# EAGLE library part MC100EP196FAG (library on-semiconductor-01)
3.3V ECL Programmable Delay Chip
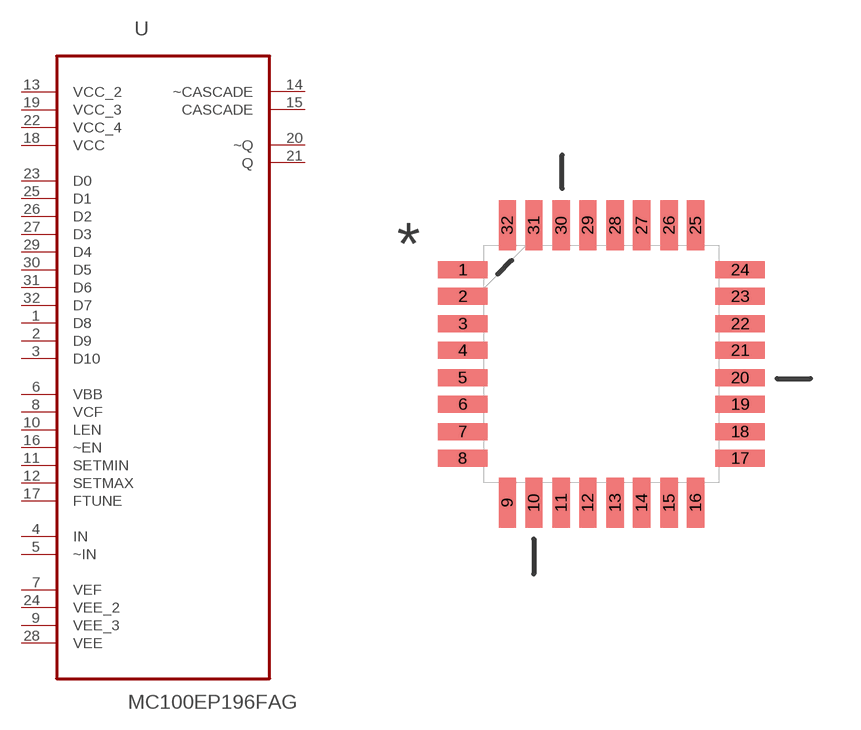
[diagram p110: symbol with the pads of QFP80P900X900X160-32N; footprint QFP80P900X900X160-32N]

Designator prefix U

## MC100EP196FAG (MPN: MC100EP196FAG; OC_FARNELL: 1703312; OC_NEWARK: 88H4711; PACKAGE: LQFP-32; SUPPLIER: ON SEMICONDUCTOR)  [QFP80P900X900X160-32N]
1  D8  in
2  D9  in
3  D10  in
4  IN  in
5  ~IN  in
6  VBB  out
7  VEF  in
8  VCF  in
9  VEE_3  pas
10  LEN  in
11  SETMIN  in
12  SETMAX  in
13  VCC_2  pwr
14  ~CASCADE  out
15  CASCADE  out
16  ~EN  out
17  FTUNE  in
18  VCC  pwr
19  VCC_3  pwr
20  ~Q  out
21  Q  out
22  VCC_4  pwr
23  D0  in
24  VEE_2  out
25  D1  in
26  D2  in
27  D3  in
28  VEE  pas
29  D4  in
30  D5  in
31  D6  in
32  D7  in

## Footprint QFP80P900X900X160-32N (pad centres in mm)
smd 1.473 x 0.508: 1 -4.115,2.794; 2 -4.115,2.007; 3 -4.115,1.194; 4 -4.115,0.406; 5 -4.115,-0.406; 6 -4.115,-1.194; 7 -4.115,-2.007; 8 -4.115,-2.794; 17 4.115,-2.794; 18 4.115,-2.007; 19 4.115,-1.194; 20 4.115,-0.406; 21 4.115,0.406; 22 4.115,1.194; 23 4.115,2.007; 24 4.115,2.794
smd 0.508 x 1.473: 9 -2.794,-4.115; 10 -2.007,-4.115; 11 -1.194,-4.115; 12 -0.406,-4.115; 13 0.406,-4.115; 14 1.194,-4.115; 15 2.007,-4.115; 16 2.794,-4.115; 25 2.794,4.115; 26 2.007,4.115; 27 1.194,4.115; 28 0.406,4.115; 29 -0.406,4.115; 30 -1.194,4.115; 31 -2.007,4.115; 32 -2.794,4.115